# EAGLE library part FHM-02PGR (library fujikura-fhm)
Fujikura FHM-02PGR Pressure Transducer
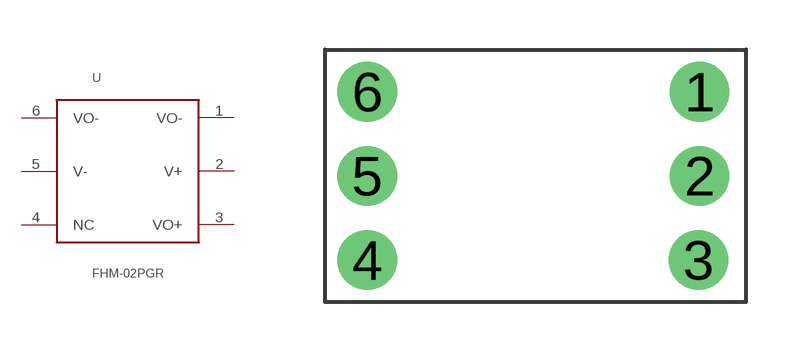
[diagram p0: symbol with the pads of FHM-02PGR; footprint FHM-02PGR]

Designator prefix -

## FHM-02PGR  [FHM-02PGR]
1  VO-
2  V+
3  VO+
4  NC
5  V-
6  VO-

## Footprint FHM-02PGR (pad centres in mm)
drill 1 pad 1.8: 1 4.953,2.54; 2 4.953,0; 3 4.92,-2.54; 4 -5.08,-2.54; 5 -5.08,0; 6 -5.08,2.54